# Altium integrated library Integrated_Library.IntLib: 167 symbols (part 2 of 2)
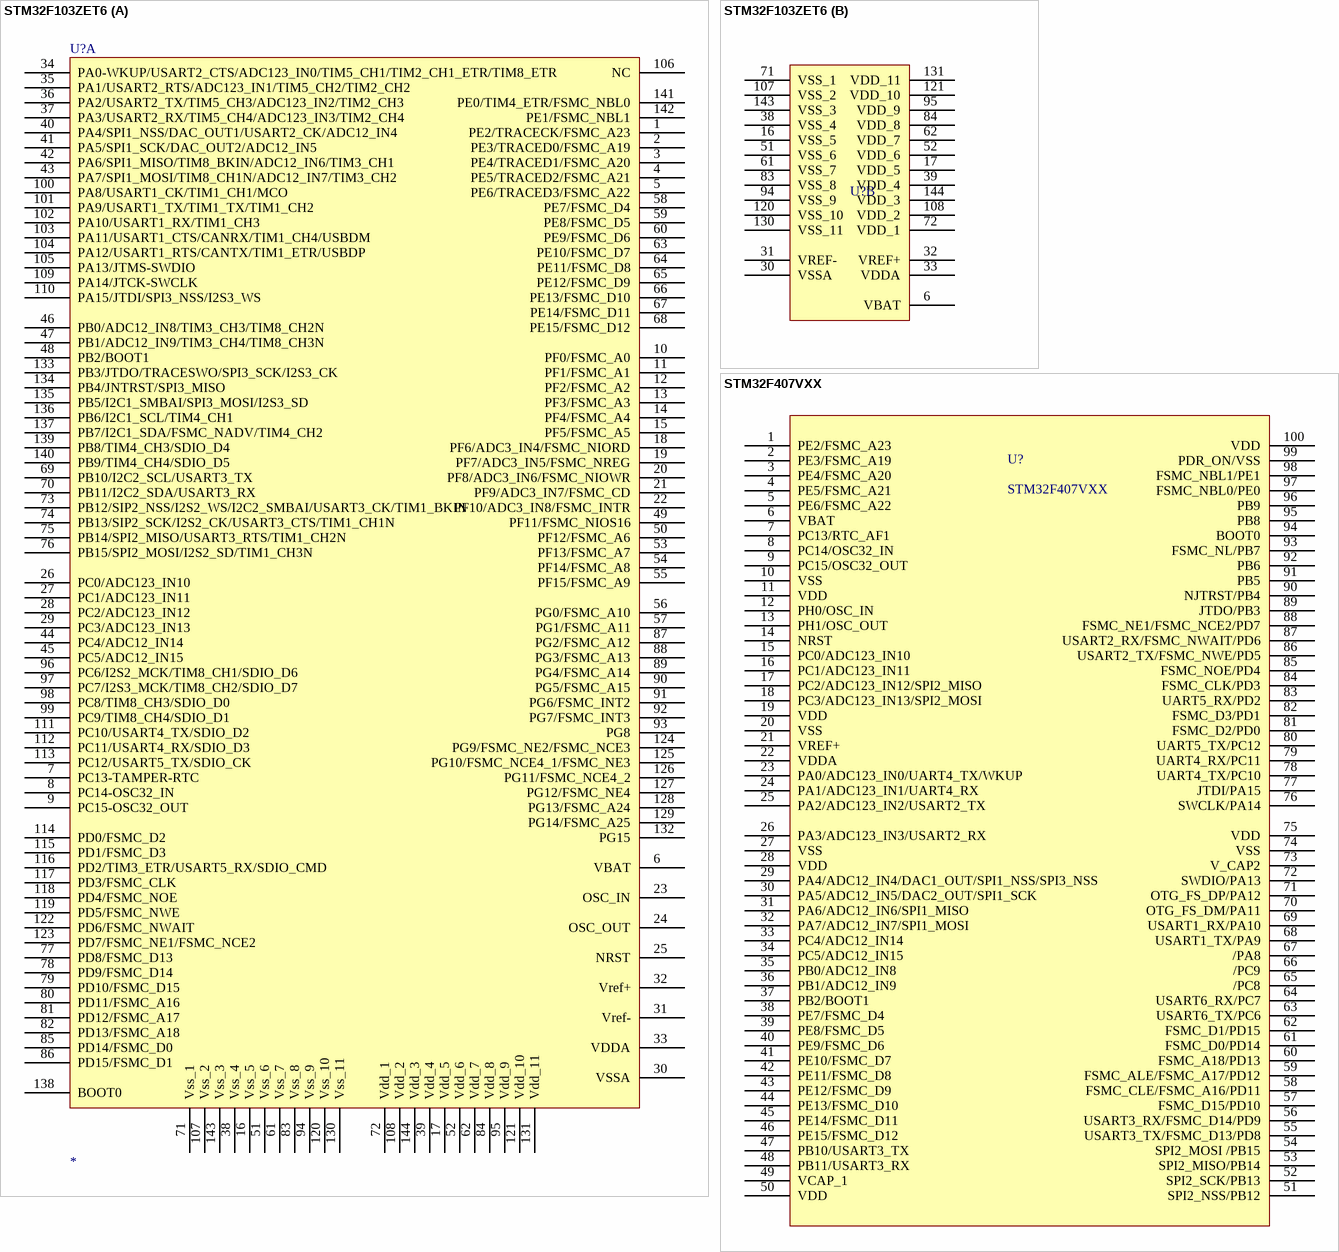
[diagram p10: symbols STM32F103ZET6 to STM32F407VXX]

## STM32F407VXX
designator U?
STM32-100引脚
footprint LQFP-100A
footprint LQFP-100B (TSQFP, 100-Leads, Body 16.0x16.0mm (max), Pitch 0.50mm, IPC Medium Density)
pins: 1 PE2/FSMC_A23, 2 PE3/FSMC_A19, 3 PE4/FSMC_A20, 4 PE5/FSMC_A21, 5 PE6/FSMC_A22, 6 VBAT, 7 PC13/RTC_AF1, 8 PC14/OSC32_IN, 9 PC15/OSC32_OUT, 10 VSS, 11 VDD, 12 PH0/OSC_IN, 13 PH1/OSC_OUT, 14 NRST, 15 PC0/ADC123_IN10, 16 PC1/ADC123_IN11, 17 PC2/ADC123_IN12/SPI2_MISO, 18 PC3/ADC123_IN13/SPI2_MOSI , 19 VDD, 20 VSS, 21 VREF+, 22 VDDA, 23 PA0/ADC123_IN0/UART4_TX/WKUP, 24 PA1/ADC123_IN1/UART4_RX, 25 PA2/ADC123_IN2/USART2_TX, 26 PA3/ADC123_IN3/USART2_RX, 27 VSS, 28 VDD, 29 PA4/ADC12_IN4/DAC1_OUT/SPI1_NSS/SPI3_NSS, 30 PA5/ADC12_IN5/DAC2_OUT/SPI1_SCK, 31 PA6/ADC12_IN6/SPI1_MISO, 32 PA7/ADC12_IN7/SPI1_MOSI, 33 PC4/ADC12_IN14, 34 PC5/ADC12_IN15, 35 PB0/ADC12_IN8, 36 PB1/ADC12_IN9, 37 PB2/BOOT1, 38 PE7/FSMC_D4, 39 PE8/FSMC_D5, 40 PE9/FSMC_D6, 41 PE10/FSMC_D7, 42 PE11/FSMC_D8, 43 PE12/FSMC_D9, 44 PE13/FSMC_D10, 45 PE14/FSMC_D11, 46 PE15/FSMC_D12, 47 PB10/USART3_TX, 48 PB11/USART3_RX, 49 VCAP_1, 50 VDD, 51 SPI2_NSS/PB12, 52 SPI2_SCK/PB13, 53 SPI2_MISO/PB14, 54 SPI2_MOSI /PB15, 55 USART3_TX/FSMC_D13/PD8, 56 USART3_RX/FSMC_D14/PD9, 57 FSMC_D15/PD10, 58 FSMC_CLE/FSMC_A16/PD11, 59 FSMC_ALE/FSMC_A17/PD12, 60 FSMC_A18/PD13, 61 FSMC_D0/PD14, 62 FSMC_D1/PD15, 63 USART6_TX/PC6, 64 USART6_RX/PC7, 65 /PC8, 66 /PC9, 67 /PA8, 68 USART1_TX/PA9, 69 USART1_RX/PA10, 70 OTG_FS_DM/PA11, 71 OTG_FS_DP/PA12, 72 SWDIO/PA13, 73 V_CAP2, 74 VSS, 75 VDD, 76 SWCLK/PA14, 77 JTDI/PA15, 78 UART4_TX/PC10, 79 UART4_RX/PC11, 80 UART5_TX/PC12, 81 FSMC_D2/PD0, 82 FSMC_D3/PD1, 83 UART5_RX/PD2, 84 FSMC_CLK/PD3, 85 FSMC_NOE/PD4, 86 USART2_TX/FSMC_NWE/PD5, 87 USART2_RX/FSMC_NWAIT/PD6, 88 FSMC_NE1/FSMC_NCE2/PD7, 89 JTDO/PB3, 90 NJTRST/PB4, 91 PB5, 92 PB6, 93 FSMC_NL/PB7, 94 BOOT0, 95 PB8, 96 PB9, 97 FSMC_NBL0/PE0, 98 FSMC_NBL1/PE1, 99 PDR_ON/VSS, 100 VDD

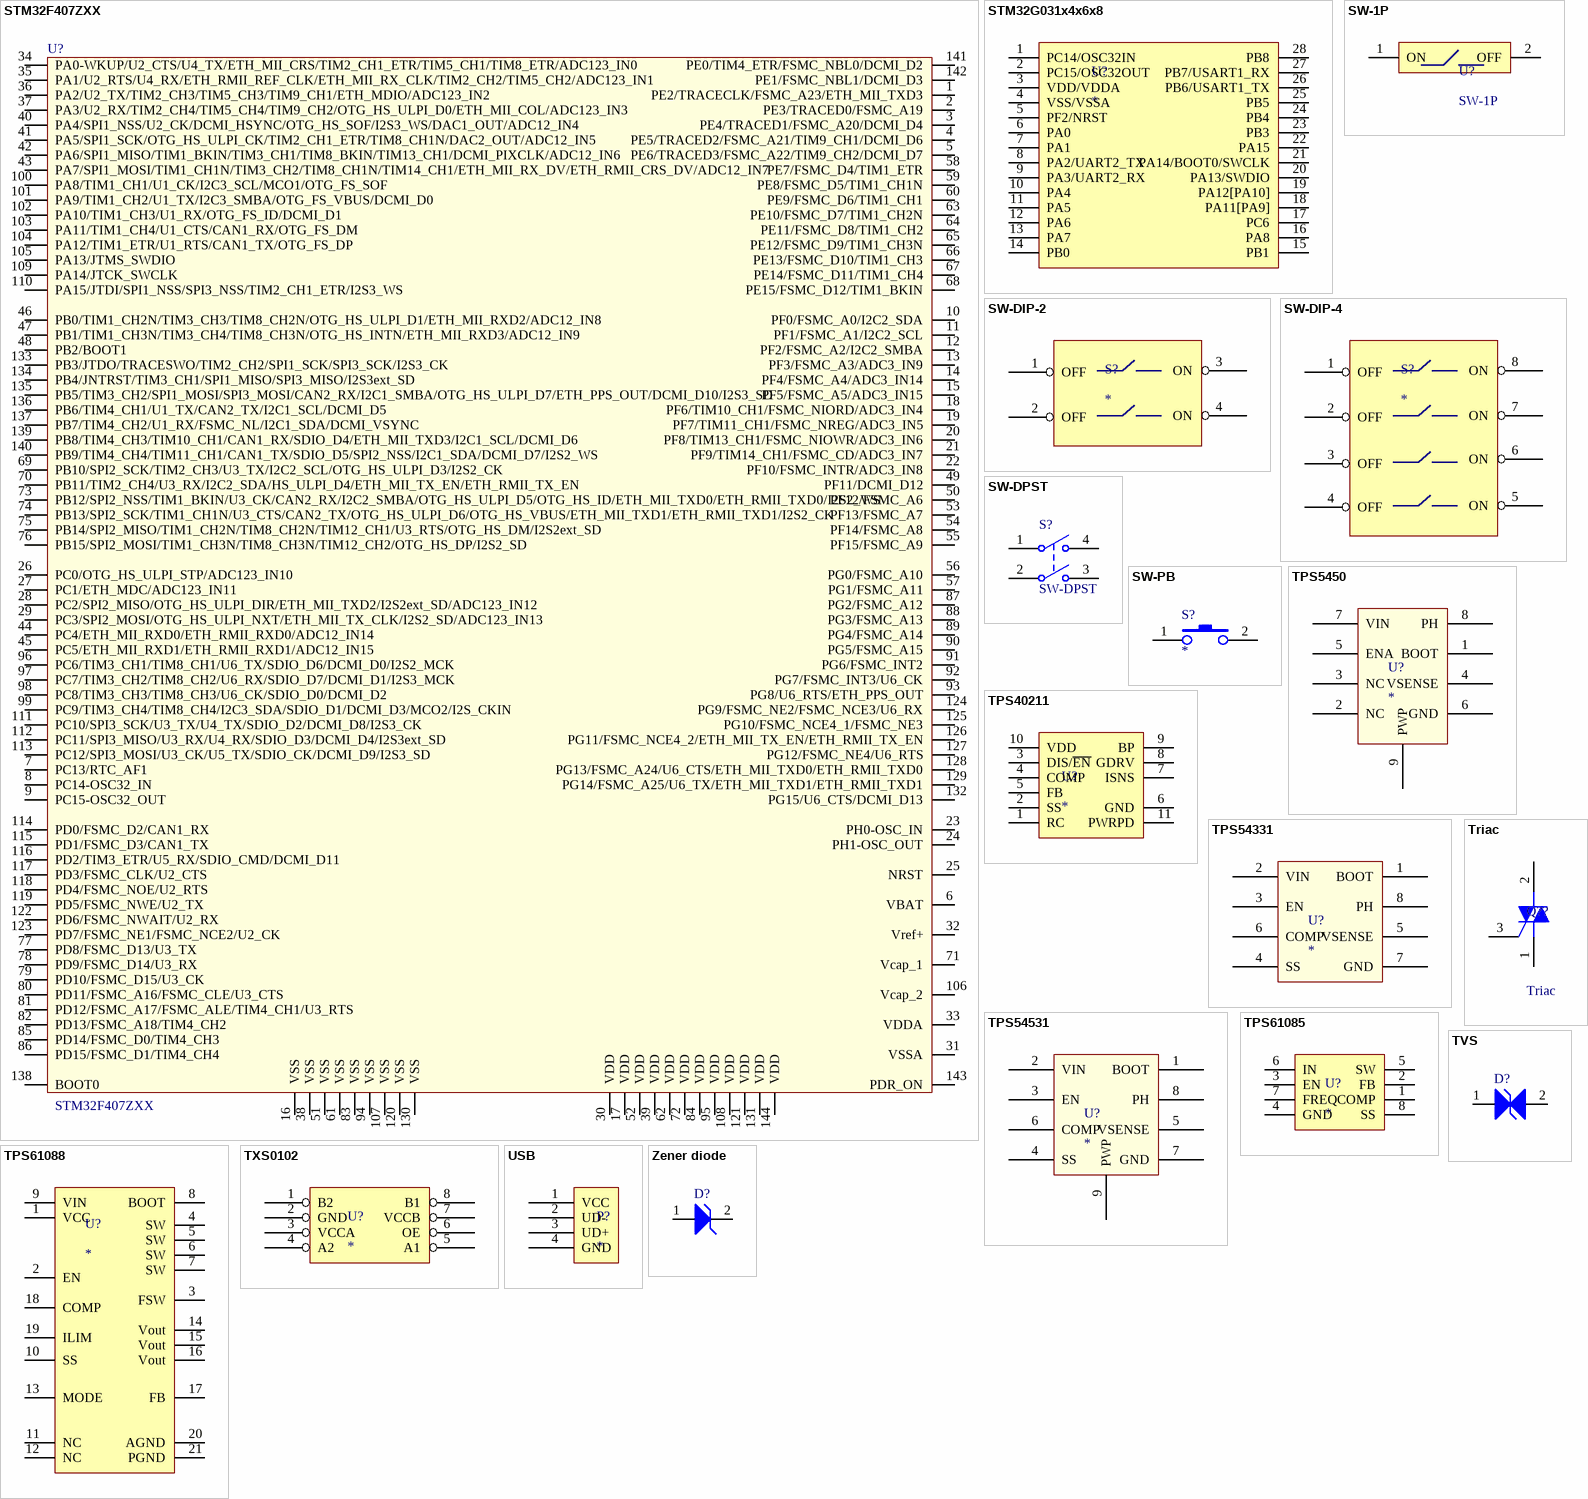
[diagram p9: symbols STM32F407ZXX to Zener diode]

## STM32F407ZXX
designator U?
STM32-144引脚
footprint LQFP-144A
footprint LQFP-144B
pins: 1 PE2/TRACECLK/FSMC_A23/ETH_MII_TXD3, 2 PE3/TRACED0/FSMC_A19, 3 PE4/TRACED1/FSMC_A20/DCMI_D4, 4 PE5/TRACED2/FSMC_A21/TIM9_CH1/DCMI_D6, 5 PE6/TRACED3/FSMC_A22/TIM9_CH2/DCMI_D7, 6 VBAT, 7 PC13/RTC_AF1, 8 PC14-OSC32_IN, 9 PC15-OSC32_OUT, 10 PF0/FSMC_A0/I2C2_SDA, 11 PF1/FSMC_A1/I2C2_SCL, 12 PF2/FSMC_A2/I2C2_SMBA, 13 PF3/FSMC_A3/ADC3_IN9, 14 PF4/FSMC_A4/ADC3_IN14, 15 PF5/FSMC_A5/ADC3_IN15, 16 VSS, 17 VDD, 18 PF6/TIM10_CH1/FSMC_NIORD/ADC3_IN4, 19 PF7/TIM11_CH1/FSMC_NREG/ADC3_IN5, 20 PF8/TIM13_CH1/FSMC_NIOWR/ADC3_IN6, 21 PF9/TIM14_CH1/FSMC_CD/ADC3_IN7, 22 PF10/FSMC_INTR/ADC3_IN8, 23 PH0-OSC_IN, 24 PH1-OSC_OUT, 25 NRST, 26 PC0/OTG_HS_ULPI_STP/ADC123_IN10, 27 PC1/ETH_MDC/ADC123_IN11, 28 PC2/SPI2_MISO/OTG_HS_ULPI_DIR/ETH_MII_TXD2/I2S2ext_SD/ADC123_IN12, 29 PC3/SPI2_MOSI/OTG_HS_ULPI_NXT/ETH_MII_TX_CLK/I2S2_SD/ADC123_IN13, 30 VDD, 31 VSSA, 32 Vref+, 33 VDDA, 34 PA0-WKUP/U2_CTS/U4_TX/ETH_MII_CRS/TIM2_CH1_ETR/TIM5_CH1/TIM8_ETR/ADC123_IN0, 35 PA1/U2_RTS/U4_RX/ETH_RMII_REF_CLK/ETH_MII_RX_CLK/TIM2_CH2/TIM5_CH2/ADC123_IN1, 36 PA2/U2_TX/TIM2_CH3/TIM5_CH3/TIM9_CH1/ETH_MDIO/ADC123_IN2, 37 PA3/U2_RX/TIM2_CH4/TIM5_CH4/TIM9_CH2/OTG_HS_ULPI_D0/ETH_MII_COL/ADC123_IN3, 38 VSS, 39 VDD, 40 PA4/SPI1_NSS/U2_CK/DCMI_HSYNC/OTG_HS_SOF/I2S3_WS/DAC1_OUT/ADC12_IN4, 41 PA5/SPI1_SCK/OTG_HS_ULPI_CK/TIM2_CH1_ETR/TIM8_CH1N/DAC2_OUT/ADC12_IN5, 42 PA6/SPI1_MISO/TIM1_BKIN/TIM3_CH1/TIM8_BKIN/TIM13_CH1/DCMI_PIXCLK/ADC12_IN6, 43 PA7/SPI1_MOSI/TIM1_CH1N/TIM3_CH2/TIM8_CH1N/TIM14_CH1/ETH_MII_RX_DV/ETH_RMII_CRS_DV/ADC12_IN7, 44 PC4/ETH_MII_RXD0/ETH_RMII_RXD0/ADC12_IN14, 45 PC5/ETH_MII_RXD1/ETH_RMII_RXD1/ADC12_IN15, 46 PB0/TIM1_CH2N/TIM3_CH3/TIM8_CH2N/OTG_HS_ULPI_D1/ETH_MII_RXD2/ADC12_IN8, 47 PB1/TIM1_CH3N/TIM3_CH4/TIM8_CH3N/OTG_HS_INTN/ETH_MII_RXD3/ADC12_IN9, 48 PB2/BOOT1, 49 PF11/DCMI_D12, 50 PF12/FSMC_A6, 51 VSS, 52 VDD, 53 PF13/FSMC_A7, 54 PF14/FSMC_A8, 55 PF15/FSMC_A9, 56 PG0/FSMC_A10, 57 PG1/FSMC_A11, 58 PE7/FSMC_D4/TIM1_ETR, 59 PE8/FSMC_D5/TIM1_CH1N, 60 PE9/FSMC_D6/TIM1_CH1, 61 VSS, 62 VDD, 63 PE10/FSMC_D7/TIM1_CH2N, 64 PE11/FSMC_D8/TIM1_CH2, 65 PE12/FSMC_D9/TIM1_CH3N, 66 PE13/FSMC_D10/TIM1_CH3, 67 PE14/FSMC_D11/TIM1_CH4, 68 PE15/FSMC_D12/TIM1_BKIN, 69 PB10/SPI2_SCK/TIM2_CH3/U3_TX/I2C2_SCL/OTG_HS_ULPI_D3/I2S2_CK, 70 PB11/TIM2_CH4/U3_RX/I2C2_SDA/HS_ULPI_D4/ETH_MII_TX_EN/ETH_RMII_TX_EN, 71 Vcap_1, 72 VDD, 73 PB12/SPI2_NSS/TIM1_BKIN/U3_CK/CAN2_RX/I2C2_SMBA/OTG_HS_ULPI_D5/OTG_HS_ID/ETH_MII_TXD0/ETH_RMII_TXD0/I2S2_WS, 74 PB13/SPI2_SCK/TIM1_CH1N/U3_CTS/CAN2_TX/OTG_HS_ULPI_D6/OTG_HS_VBUS/ETH_MII_TXD1/ETH_RMII_TXD1/I2S2_CK, 75 PB14/SPI2_MISO/TIM1_CH2N/TIM8_CH2N/TIM12_CH1/U3_RTS/OTG_HS_DM/I2S2ext_SD, 76 PB15/SPI2_MOSI/TIM1_CH3N/TIM8_CH3N/TIM12_CH2/OTG_HS_DP/I2S2_SD, 77 PD8/FSMC_D13/U3_TX, 78 PD9/FSMC_D14/U3_RX, 79 PD10/FSMC_D15/U3_CK, 80 PD11/FSMC_A16/FSMC_CLE/U3_CTS, 81 PD12/FSMC_A17/FSMC_ALE/TIM4_CH1/U3_RTS, 82 PD13/FSMC_A18/TIM4_CH2, 83 VSS, 84 VDD, 85 PD14/FSMC_D0/TIM4_CH3, 86 PD15/FSMC_D1/TIM4_CH4, 87 PG2/FSMC_A12, 88 PG3/FSMC_A13, 89 PG4/FSMC_A14, 90 PG5/FSMC_A15, 91 PG6/FSMC_INT2, 92 PG7/FSMC_INT3/U6_CK, 93 PG8/U6_RTS/ETH_PPS_OUT, 94 VSS, 95 VDD, 96 PC6/TIM3_CH1/TIM8_CH1/U6_TX/SDIO_D6/DCMI_D0/I2S2_MCK, 97 PC7/TIM3_CH2/TIM8_CH2/U6_RX/SDIO_D7/DCMI_D1/I2S3_MCK, 98 PC8/TIM3_CH3/TIM8_CH3/U6_CK/SDIO_D0/DCMI_D2, 99 PC9/TIM3_CH4/TIM8_CH4/I2C3_SDA/SDIO_D1/DCMI_D3/MCO2/I2S_CKIN, 100 PA8/TIM1_CH1/U1_CK/I2C3_SCL/MCO1/OTG_FS_SOF, 101 PA9/TIM1_CH2/U1_TX/I2C3_SMBA/OTG_FS_VBUS/DCMI_D0, 102 PA10/TIM1_CH3/U1_RX/OTG_FS_ID/DCMI_D1, 103 PA11/TIM1_CH4/U1_CTS/CAN1_RX/OTG_FS_DM, 104 PA12/TIM1_ETR/U1_RTS/CAN1_TX/OTG_FS_DP, 105 PA13/JTMS_SWDIO, 106 Vcap_2, 107 VSS, 108 VDD, 109 PA14/JTCK_SWCLK, 110 PA15/JTDI/SPI1_NSS/SPI3_NSS/TIM2_CH1_ETR/I2S3_WS, 111 PC10/SPI3_SCK/U3_TX/U4_TX/SDIO_D2/DCMI_D8/I2S3_CK, 112 PC11/SPI3_MISO/U3_RX/U4_RX/SDIO_D3/DCMI_D4/I2S3ext_SD, 113 PC12/SPI3_MOSI/U3_CK/U5_TX/SDIO_CK/DCMI_D9/I2S3_SD, 114 PD0/FSMC_D2/CAN1_RX, 115 PD1/FSMC_D3/CAN1_TX, 116 PD2/TIM3_ETR/U5_RX/SDIO_CMD/DCMI_D11, 117 PD3/FSMC_CLK/U2_CTS, 118 PD4/FSMC_NOE/U2_RTS, 119 PD5/FSMC_NWE/U2_TX, 120 VSS, 121 VDD, 122 PD6/FSMC_NWAIT/U2_RX, 123 PD7/FSMC_NE1/FSMC_NCE2/U2_CK, 124 PG9/FSMC_NE2/FSMC_NCE3/U6_RX, 125 PG10/FSMC_NCE4_1/FSMC_NE3, 126 PG11/FSMC_NCE4_2/ETH_MII_TX_EN/ETH_RMII_TX_EN, 127 PG12/FSMC_NE4/U6_RTS, 128 PG13/FSMC_A24/U6_CTS/ETH_MII_TXD0/ETH_RMII_TXD0, 129 PG14/FSMC_A25/U6_TX/ETH_MII_TXD1/ETH_RMII_TXD1, 130 VSS, 131 VDD, 132 PG15/U6_CTS/DCMI_D13, 133 PB3/JTDO/TRACESWO/TIM2_CH2/SPI1_SCK/SPI3_SCK/I2S3_CK, 134 PB4/JNTRST/TIM3_CH1/SPI1_MISO/SPI3_MISO/I2S3ext_SD, 135 PB5/TIM3_CH2/SPI1_MOSI/SPI3_MOSI/CAN2_RX/I2C1_SMBA/OTG_HS_ULPI_D7/ETH_PPS_OUT/DCMI_D10/I2S3_SD, 136 PB6/TIM4_CH1/U1_TX/CAN2_TX/I2C1_SCL/DCMI_D5, 137 PB7/TIM4_CH2/U1_RX/FSMC_NL/I2C1_SDA/DCMI_VSYNC, 138 BOOT0, 139 PB8/TIM4_CH3/TIM10_CH1/CAN1_RX/SDIO_D4/ETH_MII_TXD3/I2C1_SCL/DCMI_D6, 140 PB9/TIM4_CH4/TIM11_CH1/CAN1_TX/SDIO_D5/SPI2_NSS/I2C1_SDA/DCMI_D7/I2S2_WS, 141 PE0/TIM4_ETR/FSMC_NBL0/DCMI_D2, 142 PE1/FSMC_NBL1/DCMI_D3, 143 PDR_ON, 144 VDD

## STM32G031x4x6x8
designator U?
STM32G031-28引脚
footprint UFQFPN-28_L4.0-W4.0-P0.50-BL
pins: 1 PC14/OSC32IN, 2 PC15/OSC32OUT, 3 VDD/VDDA, 4 VSS/VSSA, 5 PF2/NRST, 6 PA0, 7 PA1, 8 PA2/UART2_TX, 9 PA3/UART2_RX, 10 PA4, 11 PA5, 12 PA6, 13 PA7, 14 PB0, 15 PB1, 16 PA8, 17 PC6, 18 PA11[PA9], 19 PA12[PA10], 20 PA13/SWDIO, 21 PA14/BOOT0/SWCLK, 22 PA15, 23 PB3, 24 PB4, 25 PB5, 26 PB6/USART1_TX, 27 PB7/USART1_RX, 28 PB8

## SW-1P
designator U?
1路开关
footprint SW-SMD_DMR-01-T-V-T/R
pins: 1 ON, 2 OFF

## SW-DIP-2
designator S?
2路拨码开关
footprint SW-DIP-2 (拨码开关 2路)
pins: 1 OFF, 2 OFF, 3 ON, 4 ON

## SW-DIP-4
designator S?
4路拨码开关
footprint SW-DIP-4 (拨码开关 4路)
pins: 1 OFF, 2 OFF, 3 OFF, 4 OFF, 5 ON, 6 ON, 7 ON, 8 ON

## SW-DPST
designator S?
轻触开关4P; Published: 24-Mar-1999; LatestRevisionDate: 17-Jul-2002; LatestRevisionNote: Re-released for DXP Platform.; PackageReference: DPST-4; Publisher: Altium Limited; PackageDescription: Switch; 4 Leads
pins: 1 COMMON1, 2 COMMON2, 3 NO2, 4 NO1

## SW-PB
designator S?
轻触开关
footprint SW-12*12
footprint SW-6*6
pins: 1, 2

## TPS5450
designator U?
DC-DC/5A
footprint SO-8-POWERPAD（1.27/3.8*5）
pins: 1 BOOT, 2 NC, 3 NC, 4 VSENSE, 5 ENA, 6 GND, 7 VIN, 8 PH, 9 PWP

## TPS40211
designator U?
DC-DC升压
footprint SO-10-PWRPD(L3.0-W3.0-P0.50-LS5.0) (带有底部焊盘)
pins: 1 RC, 2 SS, 3 DIS/~{EN}, 4 COMP, 5 FB, 6 GND, 7 ISNS, 8 GDRV, 9 BP, 10 VDD, 11 PWRPD

## TPS54331
designator U?
DC-DC/3A
footprint SO-8（1.27/3.8*5）
pins: 1 BOOT, 2 VIN, 3 EN, 4 SS, 5 VSENSE, 6 COMP, 7 GND, 8 PH

## TPS54531
designator U?
DC-DC/5A
footprint SO-8-POWERPAD（1.27/3.8*5）
pins: 1 BOOT, 2 VIN, 3 EN, 4 SS, 5 VSENSE, 6 COMP, 7 GND, 8 PH, 9 PWP

## TPS61085
designator U?
DC-DC升压
footprint VSSOP-8_L3.0-W3.0-P0.65-LS5.0-BL
pins: 1 COMP, 2 FB, 3 EN, 4 GND, 5 SW, 6 IN, 7 FREQ, 8 SS

## TPS61088
designator U?
DC-DC/boost
footprint VQFN-20_L4.6-W3.6-P0.50-BL
pins: 1 VCC, 2 EN, 3 FSW, 4 SW, 5 SW, 6 SW, 7 SW, 8 BOOT, 9 VIN, 10 SS, 11 NC, 12 NC, 13 MODE, 14 Vout, 15 Vout, 16 Vout, 17 FB, 18 COMP, 19 ILIM, 20 AGND, 21 PGND

## Triac
designator Q??
双向可控硅; Note: Pin 2 is electrically connected to Pin 4 (TAB); Published: 29-Sep-2000; LatestRevisionDate: 17-Jul-2002; LatestRevisionNote: Re-released for DXP Platform.; DatasheetVersion: 1999; PackageReference: 369-03; Publisher: Altium Limited; PackageDescription: TO, Thru-Hole, Vertical, Heatsink Mounted; 3 In-Line Leads; Pitch 2.28 mm; ComponentLink1Description: Manufacturer Link; ComponentLink1URL: http://www.motorola.com/
footprint TO-220AB 带散热片 (TO, Thru-Hole, Vertical, Heatsink Mounted; 3 In-Line Leads; Pitch 2.54 mm)
footprint TO-220AB (TO, Thru-Hole, Vertical, Heatsink Mounted; 3 In-Line Leads; Pitch 2.54 mm)
pins: 1 T1, 2 T2, 3 G

## TVS
designator D?
TVS 瞬态抑制二极管; Published: 8-Jun-2000; LatestRevisionDate: 17-Jul-2002; LatestRevisionNote: Re-released for DXP Platform.; PackageReference: DIODE-0.7; Publisher: Altium Limited
footprint SMA/DO214AC (二极管)
footprint SOD-523
footprint SMC/DO214AB
footprint SMB/DO214AA
pins: 1, 2 K

## TXS0102
designator U?
3.3v-5v双向高速电平转换
footprint DCU (DCU 封装)
pins: 1 B2, 2 GND, 3 VCCA, 4 A2, 5 A1, 6 OE, 7 VCCB, 8 B1

## USB
designator P?
USB座
footprint USB-4-A
footprint USB-A/F90度超短侧插-10mm (两侧固定位到引脚2.6)
footprint USB-A/F90度侧插-10mm (两侧固定位到引脚2.0)
footprint USB-A/F90度侧插14mm (两侧固定位到引脚2.0)
footprint USB-AF180度-15mm高度
footprint USB-180度-10mm超短
pins: 1 VCC, 2 UD-, 3 UD+, 4 GND

## Zener diode
designator D?
稳压二极管; Published: 8-Jun-2000; LatestRevisionDate: 17-Jul-2002; LatestRevisionNote: Re-released for DXP Platform.; PackageReference: DIODE-0.7; Publisher: Altium Limited
footprint LL41 (玻璃二极管封装)
footprint SMA/DO214AC (二极管)
footprint SMC/DO214AB
footprint SMB/DO214AA
footprint SOD-123FL
pins: 1, 2 K